# Altium schematic symbol library IXDN602.SchLib: 1 symbol
Pins are listed as number, name and electrical type; pins without a type are passive.

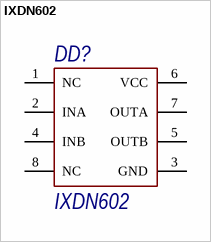
[diagram p0: symbol IXDN602]

## IXDN602
designator DD?
Двухканальный драйвер затвора для mosfet и igbt транзисторов; Part Number: IXDN602
footprint SOIC-8
pins: 1 NC, 2 INA, 3 GND, 4 INB, 5 OUTB, 6 VCC, 7 OUTA, 8 NC